# EAGLE library part MCP4921_DAC_SMT (library ModernDevice)
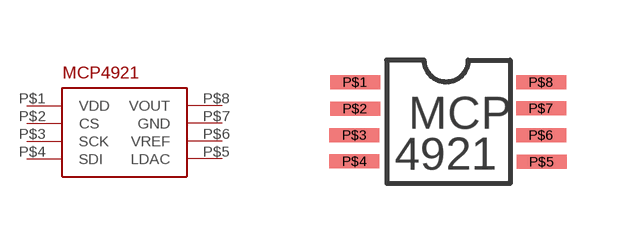
[diagram p4: symbol with the pads of MCP4921_DAC_SMT; footprint MCP4921_DAC_SMT]

Designator prefix -

## MCP4921_DAC_SMT  [MCP4921_DAC_SMT]
P$1  VDD
P$2  CS
P$3  SCK
P$4  SDI
P$5  LDAC
P$6  VREF
P$7  GND
P$8  VOUT

## Footprint MCP4921_DAC_SMT (pad centres in mm)
smd 1.25 x 0.35: P$1 -2.35,1.363; P$2 -2.35,0.701; P$3 -2.363,0.04; P$4 -2.363,-0.616; P$5 2.313,-0.629; P$6 2.3,0.039; P$7 2.3,0.708; P$8 2.3,1.362